# Altium footprint library ControlAccessLib.PcbLib: 11 footprints
Each footprint in its own frame and in the unit in brackets; x right, y up, seen from the top. Pads: shape width x height; smd on the part's side, far side on the other; paste and mask are expansions set on the pad; w line width, h text height; cw(c..) or ccw(c..) is an arc to the next point about the centre after c.
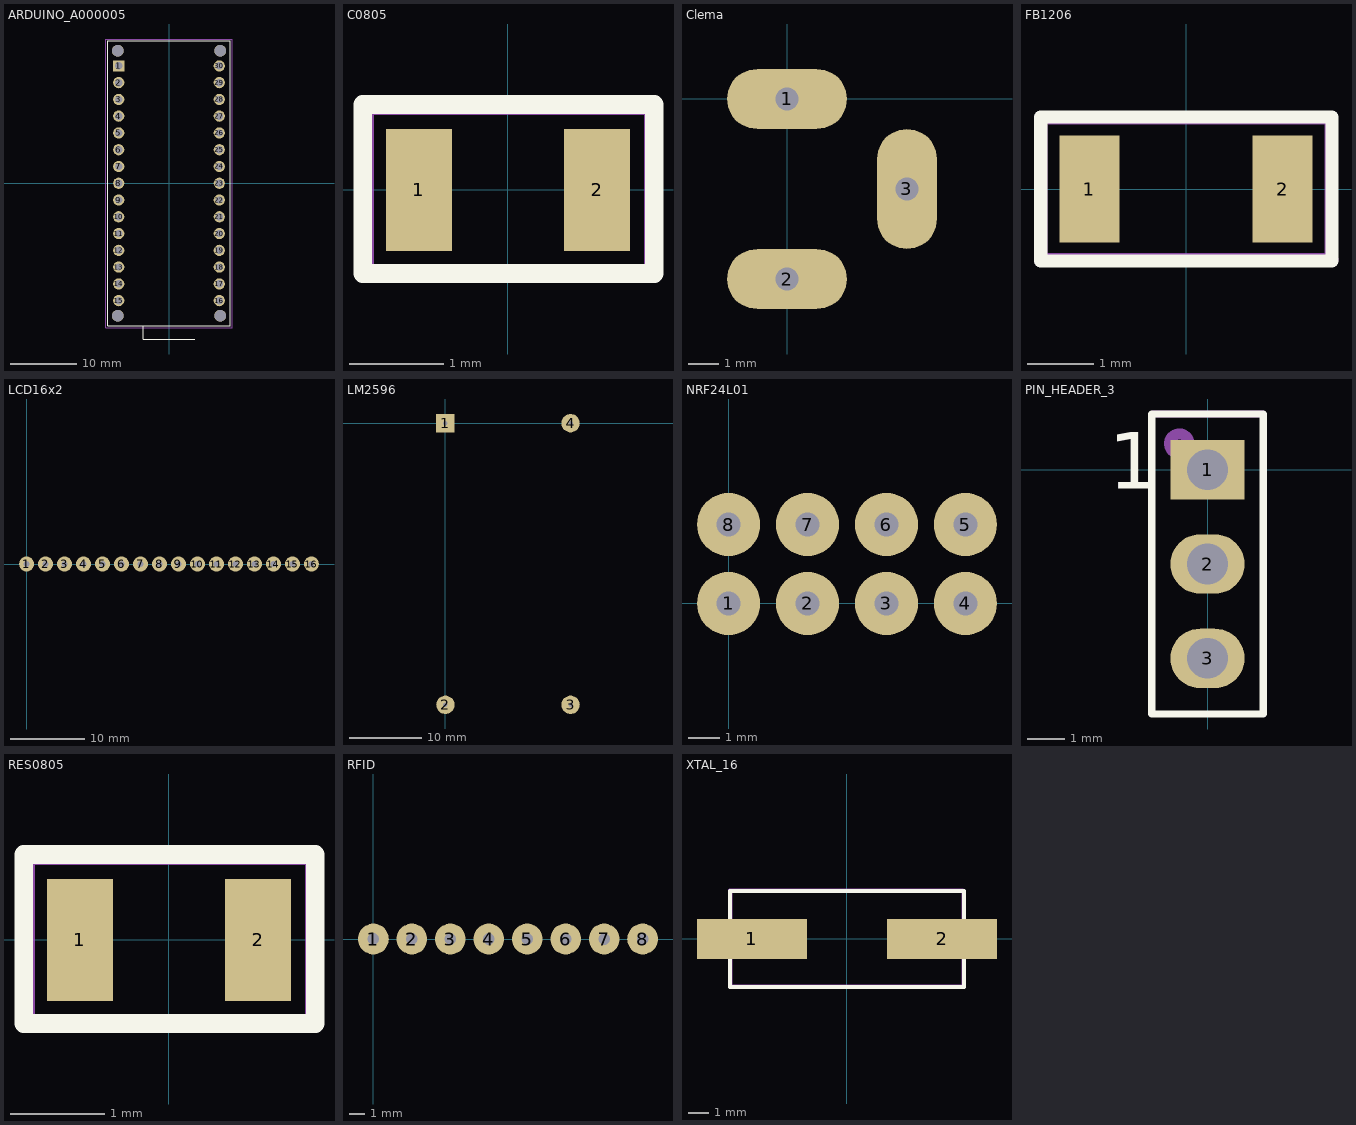
[diagram p0: the footprints below, top view; thin cyan lines are the x and y axes]

## ARDUINO_A000005 [mm]
pads (34):
  rect 1.7x1.7 hole 1.1: 1(-7.62,17.78)
  round 1.7 hole 1.1: 2(-7.62,15.24) 3(-7.62,12.7) 4(-7.62,10.16) 5(-7.62,7.62) 6(-7.62,5.08) 7(-7.62,2.54) 8(-7.62,0) 9(-7.62,-2.54) 10(-7.62,-5.08) 11(-7.62,-7.62) 12(-7.62,-10.16) 13(-7.62,-12.7) 14(-7.62,-15.24) 15(-7.62,-17.78) 16(7.62,-17.78) 17(7.62,-15.24) 18(7.62,-12.7) 19(7.62,-10.16) 20(7.62,-7.62) 21(7.62,-5.08) 22(7.62,-2.54) 23(7.62,0) 24(7.62,2.54) 25(7.62,5.08) 26(7.62,7.62) 27(7.62,10.16) 28(7.62,12.7) 29(7.62,15.24) 30(7.62,17.78)
  round 1.778 hole 1.778 unplated: None(-7.747,-20.066) None(-7.747,20.066) None(7.747,-20.066) None(7.747,20.066)
Top Overlay:
  lines w0.127: 3.9,-23.59 -3.9,-23.59 -3.9,-21.59 ; -3.9,-21.59 -9.271,-21.59 -9.271,21.59 9.271,21.59 9.271,-21.59 -3.9,-21.59
Mechanical 1:
  lines w0.127: -9.55,-21.85 -9.55,21.85 9.55,21.85 9.55,-21.85 -9.55,-21.85

## C0805 [mm]
pads (2):
  rect 0.7x1.3 smd: 1(-0.95,0) 2(0.95,0)
Top Overlay:
  lines w0.2: -1.55,-0.89 -1.55,0.91 1.56,0.91 1.56,-0.89 -1.55,-0.89
Mechanical 29:
  lines w0.2: -1.53,-0.89 -1.53,0.9 1.55,0.9 1.55,-0.89 -1.53,-0.89
  text ".Designator" at -0.62,-0.26 h0.6
3D body "CAP0805.step": height 1, standoff 0, extent -1,-0.625 1,0.625

## Clema [mm]
pads (3):
  oval 4x2 hole 0.762: 1(0,0) 2(0,-6)
  oval 2x4 hole 0.762: 3(4,-3)

## FB1206 [mm]
pads (2):
  rect 0.9x1.6 smd: 1(-1.45,0) 2(1.45,0)
Top Overlay:
  lines w0.2: -2.18,-1.08 2.19,-1.08 2.19,1.08 -2.18,1.08 -2.18,-1.08
Mechanical 29:
  lines w0.2: -2.18,-1.07 -2.18,1.06 -2.17,1.07 2.18,1.07 2.18,-1.05 2.19,-1.06 -2.17,-1.06 -2.18,-1.07
  text ".Designator" at -0.91,-0.31 h0.6
3D body "FB1206.step": height 1.1, standoff 0, extent -1.6,-0.8 1.6,0.8

## LCD16x2 [mil]
pads (16):
  round 80 hole 30: 1(0,0) 2(100,0) 3(200,0) 4(300,0) 5(400,0) 6(500,0) 7(600,0) 8(700,0) 9(800,0) 10(900,0) 11(1000,0) 12(1100,0) 13(1200,0) 14(1300,0) 15(1400,0) 16(1500,0)

## LM2596 [mil]
pads (4):
  rect 100x100 hole 25: 1(0,0)
  round 100 hole 25: 2(0,-1530) 3(680,-1530) 4(680,0)

## NRF24L01 [mil]
pads (8):
  round 80 hole 30: 1(0,0) 2(100,0) 3(200,0) 4(300,0) 5(300,100) 6(200,100) 7(100,100) 8(0,100)

## PIN_HEADER_3 [mm]
pads (3):
  rect 2x1.6 hole 1.1: 1(0,0)
  oval 2x1.6 hole 1.1: 2(0,-2.54) 3(0,-5.08)
Top Overlay:
  lines w0.2: 0,-6.58 1.5,-6.58 ; -1.5,1.5 1.5,1.5 ; -1.5,1.5 -1.5,-6.58 1.5,-6.58 ; -1.5,1.5 -1.5,-3.58 -1.5,1.5 ; -1.5,1.5 1.5,1.5 ; 1.5,-6.58 1.5,1.5
  text "1" at -2.66,-0.52 h1.52
Mechanical 1:
  text ".Designator" at 0.74,-6.12 h1.52
Mechanical 29:
  circle w0.3: c-0.76,0.7 r0.262
  lines w0.2: -1.48,1.5 1.49,1.5
3D body "PIN_HEADER_3.step": height 9.5, standoff -3.2, extent -1.27,-6.35 1.27,1.27

## RES0805 [mm]
pads (2):
  rect 0.7x1.3 smd: 1(-0.95,0) 2(0.95,0)
Top Overlay:
  lines w0.2: -1.55,-0.89 -1.55,0.91 1.56,0.91 1.56,-0.89 -1.55,-0.89
Mechanical 29:
  lines w0.2: -1.53,-0.89 -1.53,0.9 1.55,0.9 1.55,-0.89 -1.53,-0.89
  text ".Designator" at -0.62,-0.26 h0.6
3D body "RES0805.step": height 0.43, standoff -0.03, extent -0.97,-0.64 1.03,0.62

## RFID [mil]
pads (8):
  round 80 hole 30: 1(0,0) 2(100,0) 3(200,0) 4(300,0) 5(400,0) 6(500,0) 7(600,0) 8(700,0)

## XTAL_16 [mm]
pads (2):
  rect 5.5x2 smd: 1(-4.75,0) 2(4.75,0)
Top Overlay:
  lines w0.2: -5.85,-2.4 5.85,-2.4 5.85,2.4 -5.85,2.4 -5.85,-2.4
Mechanical 29:
  lines w0.2: -5.86,2.42 5.78,2.42 5.82,2.38 5.82,-2.36 5.8,-2.38 -5.82,-2.38 -5.82,2.38 -5.86,2.42
  text ".Designator" at -1.5,-0.32 h0.6
3D body "XTAL16.STEP": height 3.92, standoff -0.08, extent -6.256,-2.41 6.245,2.39